# Altium schematic symbol library Emergency_Isolator.SchLib: 5 symbols
Pins are listed as number, name and electrical type; pins without a type are passive.

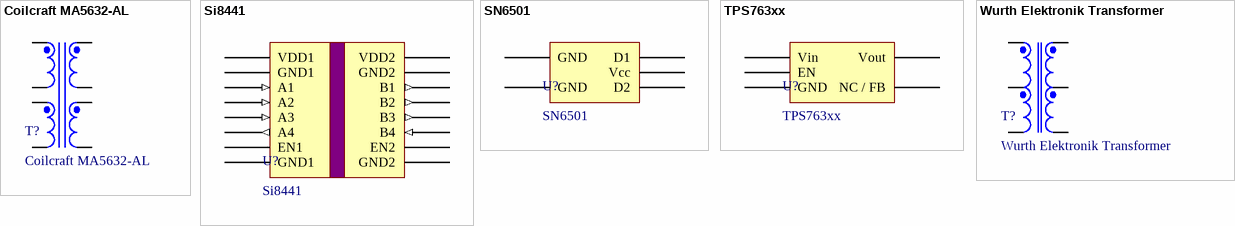
[diagram p0: symbols Coilcraft MA5632-AL to Wurth Elektronik Transformer]

## Coilcraft MA5632-AL
designator T?
Coilcraft MA5632-AL 1:2 Isolated Suppy Transformer
footprint Coilcraft MA5632-AL
pins: 1 Pri1-, 2 Pri1+, 3 Pri2-, 4 Pri2+, 5 Sec2-, 6 Sec2+, 7 Sec1-, 8 Sec1+

## Si8441
designator U?
Si8441 High Speed Digital Isolator (3/1)
footprint SO16 (Wide)
pins: 1 VDD1, 2 GND1, 3 A1 (in), 4 A2 (in), 5 A3 (in), 6 A4 (out), 7 EN1, 8 GND1, 9 GND2, 10 EN2, 11 B4 (in), 12 B3 (out), 13 B2 (out), 14 B1 (out), 15 GND2, 16 VDD2

## SN6501
designator U?
SN6501 Transformer Driver for Isolated Supplies
footprint SOT23-5
pins: 1 D1, 2 Vcc, 3 D2, 4 GND, 5 GND

## TPS763xx
designator U?
TPS763xx Regulator
footprint SOT23-5
pins: 1 Vin, 2 GND, 3 EN, 4 NC / FB, 5 Vout

## Wurth Elektronik Transformer
designator T?
Wurth Elektronik Isolated Suppy Transformer
footprint Wurth Electronik Transformer
pins: 1 Pri+, 2 PriC, 3 Pri-, 4 Sec-, 5 SecC, 6 Sec+